# EAGLE library part UC_ATTINY45 (library fab_new)
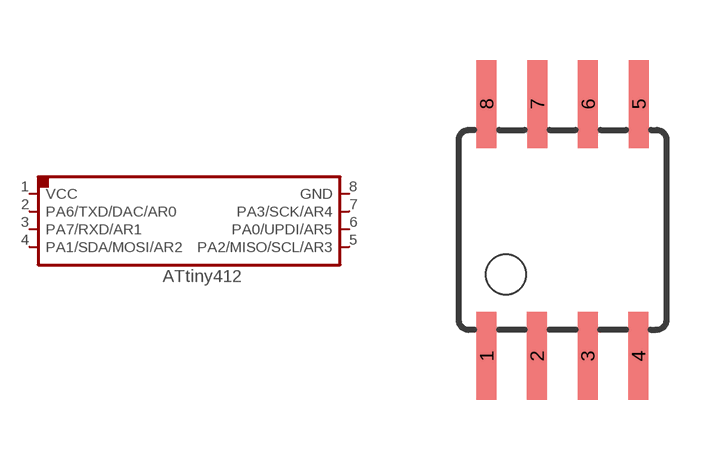
[diagram p2: symbol with the pads of SOIC8; footprint SOIC8]

Designator prefix -

## UC_ATTINY45SI  [SOIC8]
1  VCC
2  PA6/TXD/DAC/AR0
3  PA7/RXD/AR1
4  PA1/SDA/MOSI/AR2
5  PA2/MISO/SCL/AR3
6  PA0/UPDI/AR5
7  PA3/SCK/AR4
8  GND

## Footprint SOIC8 (pad centres in mm)
Wide Plastic Gull Wing Small Outline Package
smd 0.5 x 2.2: 1 -1.905,-3.154; 2 -0.645,-3.154; 3 0.625,-3.154; 4 1.895,-3.154; 5 1.905,3.154; 6 0.635,3.154; 7 -0.635,3.154; 8 -1.905,3.154